# EAGLE library part RTL_PADI (library mullac)
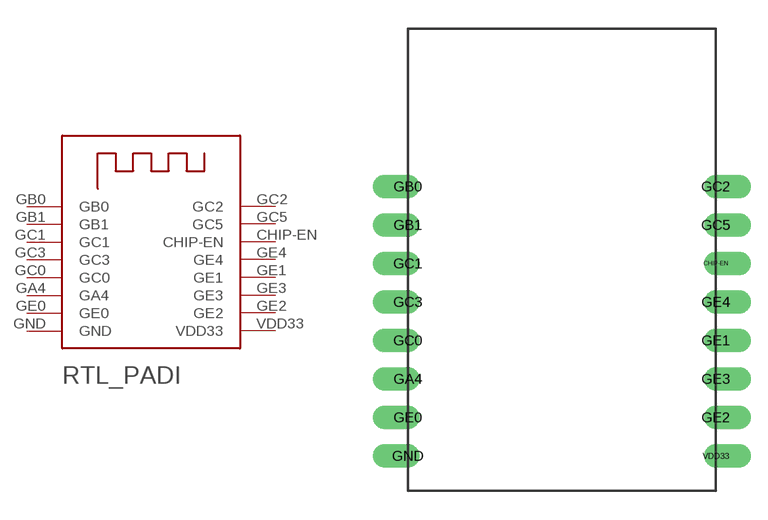
[diagram p19: symbol with the pads of RTL_PADI; footprint RTL_PADI]

Designator prefix -

## RTL_PADI  [RTL_PADI]
CHIP-EN  CHIP-EN
GA4  GA4
GB0  GB0  in
GB1  GB1  pas
GC0  GC0
GC1  GC1  in
GC2  GC2  out
GC3  GC3
GC5  GC5  in
GE0  GE0
GE1  GE1
GE2  GE2
GE3  GE3
GE4  GE4
GND  GND  pwr
VDD33  VDD33  pwr

## Footprint RTL_PADI (pad centres in mm)
drill 0.7 offset: CHIP-EN 8,1.73; GA4 -8,-4.27; GB0 -8,5.73; GB1 -8,3.73; GC0 -8,-2.27; GC1 -8,1.73; GC2 8,5.73; GC3 -8,-0.27; GC5 8,3.73; GE0 -8,-6.27; GE1 8,-2.27; GE2 8,-6.27; GE3 8,-4.27; GE4 8,-0.27; GND -8,-8.27; VDD33 8,-8.27